# EAGLE library part ATTINY2313 (library ERIC)
ATTiny2313 microcontroller
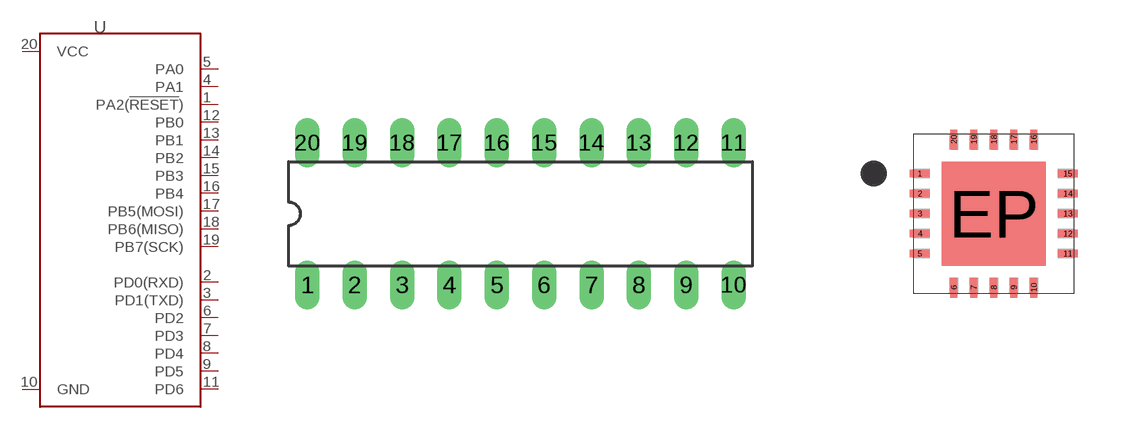
[diagram p28: symbol with the pads of DIP20; footprints DIP20, QFN_20-PIN_ATMEL_20M1]

Designator prefix -

## ATTINY2313DIP  [DIP20]
1  PA2(!RESET!)
2  PD0(RXD)
3  PD1(TXD)
4  PA1
5  PA0
6  PD2
7  PD3
8  PD4
9  PD5
10  GND
11  PD6
12  PB0
13  PB1
14  PB2
15  PB3
16  PB4
17  PB5(MOSI)
18  PB6(MISO)
19  PB7(SCK)
20  VCC

## ATTINY231320M1  [QFN_20-PIN_ATMEL_20M1]
1  PD1(TXD)
2  PA1
3  PA0
4  PD2
5  PD3
6  PD4
7  PD5
8  GND
9  PD6
10  PB0
11  PB1
12  PB2
13  PB3
14  PB4
15  PB5(MOSI)
16  PB6(MISO)
17  PB7(SCK)
18  VCC
19  PA2(!RESET!)
20  PD0(RXD)
EP  GND

## Footprint DIP20 (pad centres in mm)
drill 0.813 long: 1 -12.7,-3.81; 2 -10.16,-3.81; 3 -7.62,-3.81; 4 -5.08,-3.81; 5 -2.54,-3.81; 6 0,-3.81; 7 2.54,-3.81; 8 5.08,-3.81; 9 7.62,-3.81; 10 10.16,-3.81; 11 10.16,3.81; 12 7.62,3.81; 13 5.08,3.81; 14 2.54,3.81; 15 0,3.81; 16 -2.54,3.81; 17 -5.08,3.81; 18 -7.62,3.81; 19 -10.16,3.81; 20 -12.7,3.81

## Footprint QFN_20-PIN_ATMEL_20M1 (pad centres in mm)
smd 0.5 x 0.18: 1 -1.85,1; 2 -1.85,0.5; 3 -1.85,0; 4 -1.85,-0.5; 5 -1.85,-1; 11 1.85,-1; 12 1.85,-0.5; 13 1.85,0; 14 1.85,0.5; 15 1.85,1
smd 0.18 x 0.5: 6 -1,-1.85; 7 -0.5,-1.85; 8 0,-1.85; 9 0.5,-1.85; 10 1,-1.85; 16 1,1.85; 17 0.5,1.85; 18 0,1.85; 19 -0.5,1.85; 20 -1,1.85
smd 2.6 x 2.6: EP 0,0